# EAGLE library part 502352-0403 (library 502352-0403)
DuraClik Wire-to-Board Header, Single Row, Right-Angle, Circuits, Tin (Sn) Plating, Black Source: Datasheet <https://www.mouser.fr/datasheet/2/276/2/5023520403_PCB_HEADERS-1914407.pdf>
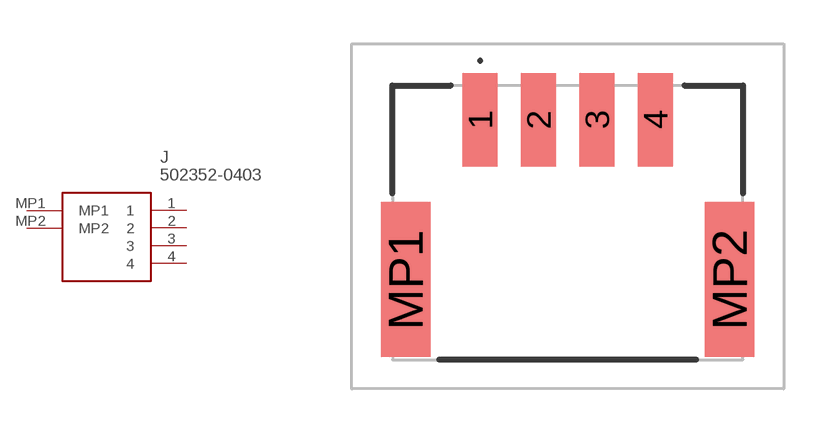
[diagram p0: symbol with the pads of 5023520403; footprint 5023520403]

Designator prefix J

## 502352-0403 (Description: DuraClik Wire-to-Board Header, Single Row, Right-Angle, Circuits, Tin (Sn) Plating, Black; Height: 6.6mm; Manufacturer_Name: Molex; Manufacturer_Part_Number: 502352-0403)  [5023520403]
1  1
2  2
3  3
4  4
MP1  MP1
MP2  MP2

## Footprint 5023520403 (pad centres in mm)
502352-0403-1
smd 1.2 x 3.2: 1 -3,3.53; 2 -1,3.53; 3 1,3.53; 4 3,3.53
smd 1.7 x 5.3: MP1 -5.55,-1.95; MP2 5.55,-1.95